# EAGLE library part DM1B-DSF-PEJ(22) (library open1541)
DM1B-DSF-PEJ(22) Hirose SD card connector, reverse type. Digikey number HR846CT-ND
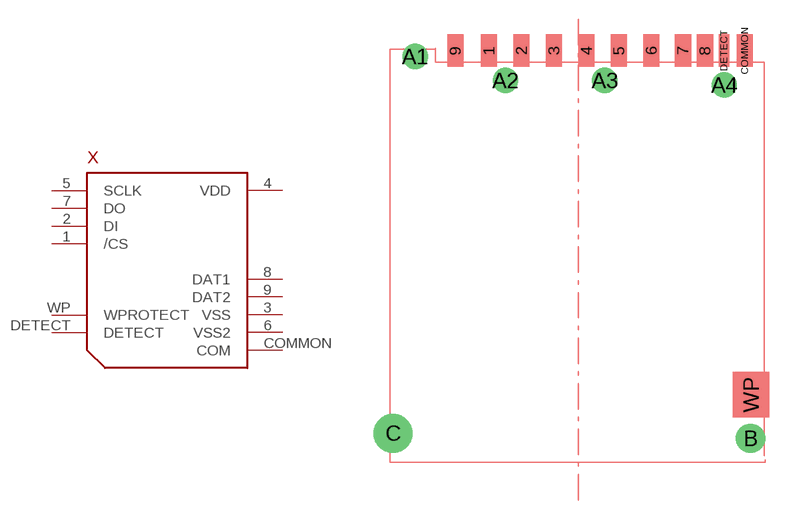
[diagram p1: symbol with the pads of DM1B-DSF-PEJ(22); footprint DM1B-DSF-PEJ(22)]

Designator prefix X

## DM1B-DSF-PEJ(22)"  [DM1B-DSF-PEJ(22)]
1  /CS  in
2  DI  in
3  VSS  pwr
4  VDD  pwr
5  SCLK  in
6  VSS2  pwr
7  DO  out
8  DAT1
9  DAT2
COMMON  COM  in
DETECT  DETECT  out
WP  WPROTECT  out

## Footprint DM1B-DSF-PEJ(22) (pad centres in mm)
DM1B-DSF-PEJ(22) Hirose SD card connector, reverse type. Digikey number HR846CT-ND
smd 1.25 x 2.5: 1 -6.875,15; 2 -4.375,15; 3 -1.875,15; 4 0.625,15; 5 3.125,15; 6 5.625,15; 7 8.05,15; 8 9.75,15; 9 -9.47,15; COMMON 12.8,15
drill 1.3 pad 1.7 round: A1 -12.57,14.55; A2 -5.62,12.7; A3 2.03,12.7; A4 11.23,12.35
drill 1.5 pad 2 round: B 13.255,-14.85
drill 2 pad 2.5 round: C -14.25,-14.45
smd 0.8 x 2.5: DETECT 11.2,15
smd 2.8 x 3.5: WP 13.3,-11.5